# Altium footprint library Molex.PcbLib: 14 footprints
Each footprint in its own frame and in the unit in brackets; x right, y up, seen from the top. Pads: shape width x height; smd on the part's side, far side on the other; paste and mask are expansions set on the pad; w line width, h text height; cw(c..) or ccw(c..) is an arc to the next point about the centre after c.
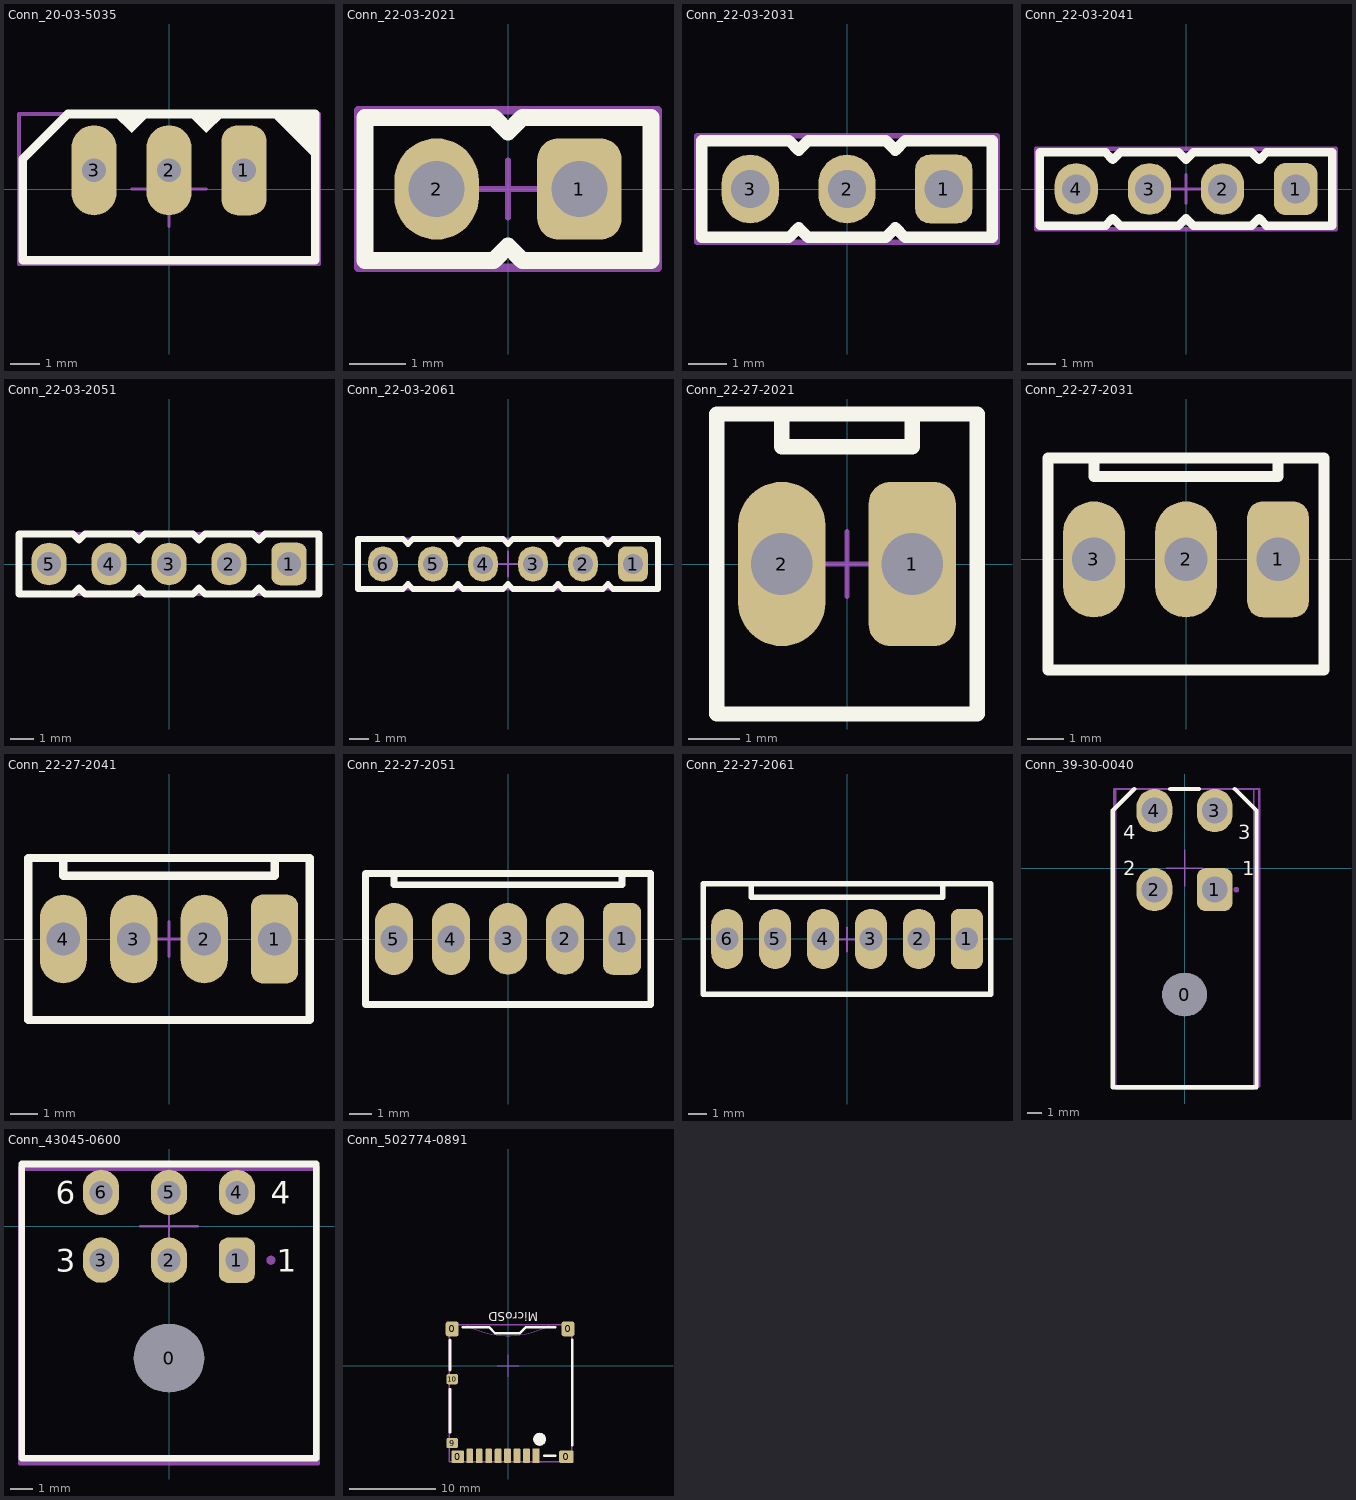
[diagram p0: the footprints below, top view; thin cyan lines are the x and y axes]

## Conn_20-03-5035 [mil]
pads (3):
  rrect70% 60x120 hole 31.5: 1(100,25)
  oval 60x120 hole 31.5: 2(0,25) 3(-100,25)
Top Overlay:
  region: -75,100 -50,75 -25,100
  region: 25,100 50,75 75,100
  region: 135,100 195,40 195,100
  lines w11.81: -195,-95 -195,40 -135,100 195,100 195,-95 -195,-95
Mechanical 13:
  lines w3.94: -195.5,-96 194.5,-96 194.5,97 -138.98,97 -195.5,38.52 -195.5,-96
Mechanical 15:
  lines w3.94: -50,0 50,0 ; 0,-50 0,50
  lines w5.91: -200,-100 200,-100 200,100 -200,100 -200,-100
Mechanical 17:
  text ".Designator" at -15.75,-7.87 h59.06
3D body "022035035.stp": height 234.25, standoff -135.83, extent -195.37,-95.96 194.4,96.96

## Conn_22-03-2021 [mm]
pads (2):
  rrect50% 1.5x1.8 hole 1: 1(1.27,0)
  oval 1.5x1.8 hole 1: 2(-1.27,0)
Top Overlay:
  lines w0.3: -2.54,-1.27 -2.54,1.27 -0.254,1.27 0,1.016 0.254,1.27 2.54,1.27 2.54,-1.27 0.254,-1.27 0,-1.016 -0.254,-1.27 -2.54,-1.27
Mechanical 13:
  lines w0.1: -2.54,-1.143 -2.413,-1.27 -0.254,-1.27 0,-1.016 0.254,-1.27 2.413,-1.27 2.54,-1.143 2.54,1.143 2.413,1.27 0.254,1.27 0,1.016 -0.254,1.27 -2.413,1.27 -2.54,1.143 -2.54,-1.143
Mechanical 15:
  lines w0.1: -0.508,0 0.508,0 ; 0,-0.508 0,0.508
  lines w0.15: -2.667,-1.397 2.667,-1.397 2.667,1.397 -2.667,1.397 -2.667,-1.397
Mechanical 17:
  text ".Designator" at -0.4,-0.2 h1.5
3D body: height 2.3, standoff 0.1, extent -0.127,-1.143 0.127,1.143
3D body: height 2.54, standoff 0, extent 0.127,-1.27 2.54,1.27
3D body: height 2.54, standoff 0, extent -2.54,-1.27 -0.127,1.27
3D body: height 11.6, standoff -3.6, extent -1.524,-0.254 -1.016,0.254
3D body: height 11.6, standoff -3.6, extent 1.016,-0.254 1.524,0.254

## Conn_22-03-2031 [mm]
pads (3):
  rrect50% 1.5x1.8 hole 1: 1(2.54,0)
  oval 1.5x1.8 hole 1: 2(0,0) 3(-2.54,0)
Top Overlay:
  lines w0.3: -3.81,-1.27 -3.81,1.27 -1.524,1.27 -1.27,1.016 -1.016,1.27 1.016,1.27 1.27,1.016 1.524,1.27 3.81,1.27 3.81,-1.27 1.524,-1.27 1.27,-1.016 1.016,-1.27 -1.016,-1.27 -1.27,-1.016 -1.524,-1.27 -3.81,-1.27
Mechanical 13:
  lines w0.1: -3.81,-1.143 -3.683,-1.27 -1.524,-1.27 -1.27,-1.016 -1.016,-1.27 1.016,-1.27 1.27,-1.016 1.524,-1.27 3.683,-1.27 3.81,-1.143 3.81,1.143 3.683,1.27 1.524,1.27 1.27,1.016 1.016,1.27 -1.016,1.27 -1.27,1.016 -1.524,1.27 -3.683,1.27 -3.81,1.143 -3.81,-1.143
Mechanical 15:
  lines w0.1: -0.635,0 0.635,0 ; 0,-0.635 0,0.635
  lines w0.15: -3.937,-1.397 -3.937,1.397 3.937,1.397 3.937,-1.397 -3.937,-1.397
Mechanical 17:
  text ".Designator" at -0.4,-0.2 h1.5
3D body: height 11.6, standoff -3.6, extent 2.286,-0.254 2.794,0.254
3D body: height 11.6, standoff -3.6, extent -0.254,-0.254 0.254,0.254
3D body: height 11.6, standoff -3.6, extent -2.794,-0.254 -2.286,0.254
3D body: height 2.54, standoff 0, extent 1.397,-1.27 3.81,1.27
3D body: height 2.54, standoff 0, extent -3.81,-1.27 -1.397,1.27
3D body: height 2.3, standoff 0.1, extent -1.397,-1.143 -1.143,1.143
3D body: height 2.3, standoff 0.1, extent 1.143,-1.143 1.397,1.143
3D body: height 2.54, standoff 0, extent -1.143,-1.27 1.143,1.27

## Conn_22-03-2041 [mm]
pads (4):
  rrect50% 1.5x1.8 hole 1: 1(3.81,0)
  oval 1.5x1.8 hole 1: 2(1.27,0) 3(-1.27,0) 4(-3.81,0)
Top Overlay:
  lines w0.3: -5.08,-1.27 -2.794,-1.27 -2.54,-1.016 -2.286,-1.27 -0.254,-1.27 0,-1.016 0.254,-1.27 2.286,-1.27 2.54,-1.016 2.794,-1.27 5.08,-1.27 5.08,1.27 2.794,1.27 2.54,1.016 2.286,1.27 0.254,1.27 0,1.016 -0.254,1.27 -2.286,1.27 -2.54,1.016 -2.794,1.27 -5.08,1.27 -5.08,-1.27
Mechanical 13:
  lines w0.1: -5.08,-1.143 -5.08,1.143 -4.953,1.27 -2.794,1.27 -2.54,1.016 -2.286,1.27 -0.254,1.27 0,1.016 0.254,1.27 2.286,1.27 2.54,1.016 2.794,1.27 4.953,1.27 5.08,1.143 5.08,-1.143 4.953,-1.27 2.794,-1.27 2.54,-1.016 2.286,-1.27 0.254,-1.27 0,-1.016 -0.254,-1.27 -2.286,-1.27 -2.54,-1.016 -2.794,-1.27 -4.953,-1.27 -5.08,-1.143
Mechanical 15:
  lines w0.1: -0.508,0 0.508,0 ; 0,-0.508 0,0.508
  lines w0.15: -5.207,-1.397 -5.207,1.397 5.207,1.397 5.207,-1.397 -5.207,-1.397
Mechanical 17:
  text ".Designator" at -0.4,-0.2 h1.5
3D body: height 11.6, standoff -3.6, extent -1.524,-0.254 -1.016,0.254
3D body: height 11.6, standoff -3.6, extent -4.064,-0.254 -3.556,0.254
3D body: height 2.54, standoff 0, extent -5.08,-1.27 -2.667,1.27
3D body: height 2.54, standoff 0, extent -2.413,-1.27 0,1.27
3D body: height 2.3, standoff 0.1, extent -2.667,-1.143 -2.413,1.143
3D body: height 2.3, standoff 0.1, extent 2.413,-1.143 2.667,1.143
3D body: height 2.54, standoff 0, extent 2.667,-1.27 5.08,1.27
3D body: height 2.54, standoff 0, extent 0,-1.27 2.413,1.27
3D body: height 11.6, standoff -3.6, extent 1.016,-0.254 1.524,0.254
3D body: height 11.6, standoff -3.6, extent 3.556,-0.254 4.064,0.254

## Conn_22-03-2051 [mm]
pads (5):
  rrect50% 1.5x1.8 hole 1: 1(5.08,0)
  oval 1.5x1.8 hole 1: 2(2.54,0) 3(0,0) 4(-2.54,0) 5(-5.08,0)
Top Overlay:
  lines w0.3: -6.35,-1.27 -6.35,1.27 -4.064,1.27 -3.81,1.016 -3.556,1.27 -1.524,1.27 -1.27,1.016 -1.016,1.27 1.016,1.27 1.27,1.016 1.524,1.27 3.556,1.27 3.81,1.016 4.064,1.27 6.35,1.27 6.35,-1.27 4.064,-1.27 3.81,-1.016 3.556,-1.27 1.524,-1.27 1.27,-1.016 1.016,-1.27 -1.016,-1.27 -1.27,-1.016 -1.524,-1.27 -3.556,-1.27 -3.81,-1.016 -4.064,-1.27 -6.35,-1.27
Mechanical 13:
  lines w0.1: -6.35,-1.143 -6.35,1.143 -6.223,1.27 -4.064,1.27 -3.81,1.016 -3.556,1.27 -1.524,1.27 -1.27,1.016 -1.016,1.27 1.016,1.27 1.27,1.016 1.524,1.27 3.556,1.27 3.81,1.016 4.064,1.27 6.223,1.27 6.35,1.143 6.35,-1.143 6.223,-1.27 4.064,-1.27 3.81,-1.016 3.556,-1.27 1.524,-1.27 1.27,-1.016 1.016,-1.27 -1.016,-1.27 -1.27,-1.016 -1.524,-1.27 -3.556,-1.27 -3.81,-1.016 -4.064,-1.27 -6.223,-1.27 -6.35,-1.143
Mechanical 15:
  lines w0.1: -0.635,0 0.635,0 ; 0,-0.635 0,0.635
  lines w0.15: -6.35,-1.27 -6.35,1.27 6.35,1.27 6.35,-1.27 -6.35,-1.27
Mechanical 17:
  text ".Designator" at -0.4,-0.2 h1.5
3D body: height 2.3, standoff 0.1, extent 3.683,-1.143 3.937,1.143
3D body: height 2.3, standoff 0.1, extent 1.143,-1.143 1.397,1.143
3D body: height 2.3, standoff 0.1, extent -1.397,-1.143 -1.143,1.143
3D body: height 2.3, standoff 0.1, extent -3.937,-1.143 -3.683,1.143
3D body: height 2.54, standoff 0, extent 3.937,-1.27 6.35,1.27
3D body: height 2.54, standoff 0, extent -6.35,-1.27 -3.937,1.27
3D body: height 2.54, standoff 0, extent -3.683,-1.27 -1.397,1.27
3D body: height 2.54, standoff 0, extent -1.143,-1.27 1.143,1.27
3D body: height 2.54, standoff 0, extent 1.397,-1.27 3.683,1.27
3D body: height 11.6, standoff -3.6, extent -5.334,-0.254 -4.826,0.254
3D body: height 11.6, standoff -3.6, extent -2.794,-0.254 -2.286,0.254
3D body: height 11.6, standoff -3.6, extent -0.254,-0.254 0.254,0.254
3D body: height 11.6, standoff -3.6, extent 2.286,-0.254 2.794,0.254
3D body: height 11.6, standoff -3.6, extent 4.826,-0.254 5.334,0.254

## Conn_22-03-2061 [mm]
pads (6):
  rrect50% 1.5x1.8 hole 1: 1(6.35,0)
  oval 1.5x1.8 hole 1: 2(3.81,0) 3(1.27,0) 4(-1.27,0) 5(-3.81,0) 6(-6.35,0)
Top Overlay:
  lines w0.3: -7.62,-1.27 -7.62,1.27 -5.334,1.27 -5.08,1.016 -4.826,1.27 -2.794,1.27 -2.54,1.016 -2.286,1.27 -0.254,1.27 0,1.016 0.254,1.27 2.286,1.27 2.54,1.016 2.794,1.27 4.826,1.27 5.08,1.016 5.334,1.27 7.62,1.27 7.62,-1.27 5.334,-1.27 5.08,-1.016 4.826,-1.27 2.794,-1.27 2.54,-1.016 2.286,-1.27 0.254,-1.27 0,-1.016 -0.254,-1.27 -2.286,-1.27 -2.54,-1.016 -2.794,-1.27 -4.826,-1.27 -5.08,-1.016 -5.334,-1.27 -7.493,-1.27 -7.62,-1.27
Mechanical 13:
  lines w0.1: -7.62,-1.143 -7.62,1.143 -7.493,1.27 -5.334,1.27 -5.08,1.016 -4.826,1.27 -2.794,1.27 -2.54,1.016 -2.286,1.27 -0.254,1.27 0,1.016 0.254,1.27 2.286,1.27 2.54,1.016 2.794,1.27 4.826,1.27 5.08,1.016 5.334,1.27 7.493,1.27 7.62,1.143 7.62,-1.143 7.493,-1.27 5.334,-1.27 5.08,-1.016 4.826,-1.27 2.794,-1.27 2.54,-1.016 2.286,-1.27 0.254,-1.27 0,-1.016 -0.254,-1.27 -2.286,-1.27 -2.54,-1.016 -2.794,-1.27 -4.826,-1.27 -5.08,-1.016 -5.334,-1.27 -7.493,-1.27 -7.62,-1.143
Mechanical 15:
  lines w0.1: -0.635,0 0.635,0 ; 0,-0.635 0,0.635
  lines w0.15: -7.62,-1.27 -7.62,1.27 7.62,1.27 7.62,-1.27 -7.62,-1.27
Mechanical 17:
  text ".Designator" at -0.4,-0.2 h1.5
3D body: height 2.3, standoff 0.1, extent 4.953,-1.143 5.207,1.143
3D body: height 2.3, standoff 0.1, extent 2.413,-1.143 2.667,1.143
3D body: height 2.3, standoff 0.1, extent -0.127,-1.143 0.127,1.143
3D body: height 2.3, standoff 0.1, extent -2.667,-1.143 -2.413,1.143
3D body: height 2.3, standoff 0.1, extent -5.207,-1.143 -4.953,1.143
3D body: height 2.54, standoff 0, extent 5.207,-1.27 7.62,1.27
3D body: height 2.54, standoff 0, extent -7.62,-1.27 -5.207,1.27
3D body: height 2.54, standoff 0, extent -4.953,-1.27 -2.667,1.27
3D body: height 2.54, standoff 0, extent -2.413,-1.27 -0.127,1.27
3D body: height 2.54, standoff 0, extent 0.127,-1.27 2.413,1.27
3D body: height 2.54, standoff 0, extent 2.667,-1.27 4.953,1.27
3D body: height 11.6, standoff -3.6, extent -6.604,-0.254 -6.096,0.254
3D body: height 11.6, standoff -3.6, extent -4.064,-0.254 -3.556,0.254
3D body: height 11.6, standoff -3.6, extent -1.524,-0.254 -1.016,0.254
3D body: height 11.6, standoff -3.6, extent 1.016,-0.254 1.524,0.254
3D body: height 11.6, standoff -3.6, extent 3.556,-0.254 4.064,0.254
3D body: height 11.6, standoff -3.6, extent 6.159,-0.254 6.667,0.254

## Conn_22-27-2021 [mm]
pads (2):
  rrect50% 1.7x3.2 hole 1.2: 1(1.27,0)
  oval 1.7x3.2 hole 1.2: 2(-1.27,0)
Top Overlay:
  lines w0.3: -1.27,2.921 -1.27,2.286 1.27,2.286 1.27,2.921 ; -2.54,-2.921 -2.54,2.921 2.54,2.921 2.54,-2.921 -2.54,-2.921
Mechanical 13:
  lines w0.1: -1.25,2.921 -1.25,2.25 1.25,2.25 1.25,2.921 ; -2.54,-2.921 2.54,-2.921 2.54,2.921 -2.54,2.921 -2.54,-2.921
Mechanical 15:
  lines w0.1: -0.635,0 0.635,0 ; 0,-0.635 0,0.635
  lines w0.15: -2.54,-2.921 2.54,-2.921 2.54,2.921 -2.54,2.921 -2.54,-2.921
Mechanical 17:
  text ".Designator" at -0.4,-0.2 h1.5
3D body "022272021.stp": height 3.14, standoff -12.12, extent -2.535,-2.915 2.545,2.885

## Conn_22-27-2031 [mm]
pads (3):
  rrect50% 1.7x3.2 hole 1.2: 1(2.54,0)
  oval 1.7x3.2 hole 1.2: 2(0,0) 3(-2.54,0)
Top Overlay:
  lines w0.3: -2.54,2.794 -2.54,2.286 2.54,2.286 2.54,2.794 ; -3.81,-3.048 -3.81,2.794 3.81,2.794 3.81,-3.048 -3.81,-3.048
Mechanical 13:
  lines w0.1: -2.52,2.794 -2.52,2.25 2.5,2.25 2.5,2.794 ; -3.81,-3.048 3.81,-3.048 3.81,2.794 -3.81,2.794 -3.81,-3.048
Mechanical 15:
  lines w0.1: -0.635,0 0.635,0 ; 0,-0.635 0,0.635
  lines w0.15: -3.81,-3.048 3.81,-3.048 3.81,2.794 -3.81,2.794 -3.81,-3.048
Mechanical 17:
  text ".Designator" at -0.4,-0.2 h1.5
3D body "022272031.stp": height 11.72, standoff -3.54, extent -3.822,-2.982 3.798,2.818

## Conn_22-27-2041 [mm]
pads (4):
  rrect50% 1.7x3.2 hole 1.2: 1(3.81,0)
  oval 1.7x3.2 hole 1.2: 2(1.27,0) 3(-1.27,0) 4(-3.81,0)
Top Overlay:
  lines w0.3: -3.81,2.921 -3.81,2.286 3.81,2.286 3.81,2.921 ; -5.08,-2.921 -5.08,2.921 5.08,2.921 5.08,-2.921 -5.08,-2.921
Mechanical 13:
  lines w0.1: -3.79,2.921 -3.79,2.3 3.8,2.3 3.8,2.921 ; -5.08,-2.921 -5.08,2.921 5.08,2.921 5.08,-2.921 -5.08,-2.921
Mechanical 15:
  lines w0.1: -0.635,0 0.635,0 ; 0,-0.635 0,0.635
  lines w0.15: -5.08,-2.921 -5.08,2.921 5.08,2.921 5.08,-2.921 -5.08,-2.921
Mechanical 17:
  text ".Designator" at -0.4,-0.2 h1.5
3D body "022272041.stp": height 11.72, standoff -3.54, extent -5.08,-2.921 5.08,2.879

## Conn_22-27-2051 [mm]
pads (5):
  rrect50% 1.7x3.2 hole 1.2: 1(5.078,0.008)
  oval 1.7x3.2 hole 1.2: 2(2.538,0.008) 3(-0.002,0.008) 4(-2.54,0) 5(-5.08,0)
Top Overlay:
  lines w0.3: 5.08,2.921 5.08,2.413 -5.08,2.413 -5.08,2.921 -6.35,2.921 ; -6.35,2.921 6.35,2.921 6.35,-2.921 -6.35,-2.921 -6.35,2.921
Mechanical 13:
  lines w0.1: -5.06,2.921 -5.06,2.4 5.1,2.4 5.1,2.921 ; -6.35,-2.921 6.35,-2.921 6.35,2.921 -6.35,2.921 -6.35,-2.921
Mechanical 15:
  lines w0.1: -0.635,0 0.635,0 ; 0,-0.635 0,0.635
  lines w0.15: -6.35,-2.921 6.35,-2.921 6.35,2.921 -6.35,2.921 -6.35,-2.921
Mechanical 17:
  text ".Designator" at -0.4,-0.2 h1.5
3D body "022272051.stp": height 11.72, standoff -3.54, extent -6.32,-2.865 6.38,2.935

## Conn_22-27-2061 [mm]
pads (6):
  rrect50% 1.7x3.2 hole 1.2: 1(6.35,0)
  oval 1.7x3.2 hole 1.2: 2(3.81,0) 3(1.27,0) 4(-1.27,0) 5(-3.81,0) 6(-6.35,0)
Top Overlay:
  lines w0.3: -5.067,2.894 -5.067,2.21 5.08,2.21 5.08,2.857 ; -7.62,-2.92 -7.62,2.921 7.62,2.921 7.62,-2.921 -7.62,-2.92
Mechanical 13:
  lines w0.1: -5.11,2.921 -5.11,2.25 5.1,2.25 5.1,2.921 ; -7.62,-2.921 7.62,-2.921 7.62,2.921 -7.62,2.921 -7.62,-2.921
Mechanical 15:
  lines w0.1: -0.631,-0.027 0.639,-0.027 ; 0.004,-0.662 0.004,0.608
  lines w0.15: -7.62,-2.914 -7.62,2.912 7.62,2.912 7.62,-2.914 -7.62,-2.914
Mechanical 17:
  text ".Designator" at -0.4,-0.2 h1.5
3D body "022272061.stp": height 11.82, standoff -3.44, extent -7.594,-2.841 7.646,2.959

## Conn_39-30-0040 [mm] "4 pins, straight"
height 7
pads (5):
  round 3 hole 3 slot 3.1 at 0 deg unplated: 0(0,-8.8)
  rrect50% 2.5x3 hole 1.8: 1(2.1,-1.5)
  oval 2.5x3 hole 1.8: 2(-2.1,-1.5) 3(2.1,4) 4(-2.1,4)
Top Overlay:
  lines w0.3: -3.5,5.5 -5,4 -5,-15.25 5,-15.25 5,4 3.5,5.5 ; -1,5.5 1,5.5
  text "4" at -4.25,2 h1
  text "2" at -4.25,-0.5 h1
  text "1" at 4,-0.5 h1
  text "3" at 3.75,2 h1
Mechanical 13:
  circle w0.2: c3.6,-1.5 r0.1
  lines w0.1: -4.8,5.5 -4.8,-15.367 4.8,-15.367 4.8,5.5
  lines w0.127: -4.8,5.5 4.8,5.5
Mechanical 15:
  lines w0.1: -1.27,0 1.27,0 ; 0,-1.27 0,1.27
  lines w0.15: -4.9,-15.2 -4.9,5.5 5.2,5.5 5.2,-15.2 -4.9,-15.2
Mechanical 17:
  text ".Designator" at -0.4,-0.2 h1.5
3D body "Molex-4-pins.stp": height 11.4, standoff -3.6, extent -4.8,-15.397 5.2,4.537

## Conn_43045-0600 [mm] "6 pins, straight"
height 7
pads (7):
  round 3 hole 3 slot 3.1 at 0 deg unplated: 0(0,-5.825)
  rrect50% 1.6x2 hole 1.02: 1(3,-1.5)
  oval 1.6x2 hole 1.02: 2(0,-1.5) 3(-3,-1.5) 4(3,1.5) 5(0,1.5) 6(-3,1.5)
Top Overlay:
  lines w0.3: -6.5,-10.25 6.5,-10.25 6.5,2.75 -6.5,2.75 -6.5,-10.25
  text "4" at 4.5,1 h1
  text "6" at -5,1 h1
  text "1" at 4.75,-2 h1
  text "3" at -5,-2 h1
Mechanical 13:
  circle w0.2: c4.5,-1.5 r0.1
  lines w0.1: -6.575,-10.4 6.575,-10.4 6.575,2.5 -6.575,2.5 -6.575,-10.4
Mechanical 15:
  lines w0.1: -1.27,0 1.27,0 ; 0,-1.27 0,1.27
  lines w0.15: -6.6,-10.5 6.6,-10.5 6.6,2.6 -6.6,2.6 -6.6,-10.5
Mechanical 17:
  text ".Designator" at -0.4,-0.2 h1.5
3D body "Molex-6-pins.stp": height 9.83, standoff -2.11, extent -6.575,-10.45 6.575,1.79

## Conn_502774-0891 [mm]
height 1.8
pads (15):
  rrect30% 1.5x1.7 smd: 0(-6.504,4.283) 0(6.99,4.283)
  rrect30% 1.5x1.5 smd: 0(-5.85,-10.6)
  rrect30% 1.7x1.5 smd: 0(6.8,-10.6)
  rect 0.8x1.68 smd: 1(3.25,-10.5)
  rrect30% 0.8x1.68 smd: 2(2.15,-10.5) 3(1.05,-10.5) 4(-0.05,-10.5) 5(-1.15,-10.5) 6(-2.25,-10.5) 7(-3.35,-10.5) 8(-4.45,-10.5)
  rrect30% 1.3x1.2 smd: 9(-6.5,-9.01) 10(-6.5,-1.56)
  round 1.524 on Top Overlay: ""(3.682,-8.57)
Top Overlay:
  lines w0.3: -6.758,-7.75 -6.758,-2.75 ; -6.758,-0.5 -6.758,3 ; -5.25,4.5 -2.223,4.5 -1.487,3.763 1.333,3.763 2.044,4.475 5.5,4.475 ; 4.25,-10.5 5.5,-10.5 ; 7.5,-9.25 7.5,3
  text "MicroSD" at 3.5,6.25 h1.02
Mechanical 13:
  circle w0.5: c3.6,-8.5 r0.2
  lines w0.1: -4.952,4.812 ccw(c0,13.5) 4.952,4.812 ; -4.952,4.816 -6.846,4.816 -6.846,-11.2 7.4,-11.2 7.4,4.816 4.95,4.816
Mechanical 15:
  lines w0.1: -1.27,0 1.27,0 ; 0,-1.27 0,1.27
  lines w0.15: -6.85,-11.2 -6.85,4.8 7.45,4.8 7.45,-11.2 -6.85,-11.2
Mechanical 17:
  text ".Designator" at -0.4,-0.2 h2
3D body "MOLEX_miniSD_header_5027740891.stp": height 1.79, standoff -0.01, extent -6.846,-11.184 7.454,4.816